# Altium footprint library SMD SO.PcbLib: 7 footprints
Each footprint in its own frame and in the unit in brackets; x right, y up, seen from the top. Pads: shape width x height; smd on the part's side, far side on the other; paste and mask are expansions set on the pad; w line width, h text height; cw(c..) or ccw(c..) is an arc to the next point about the centre after c.
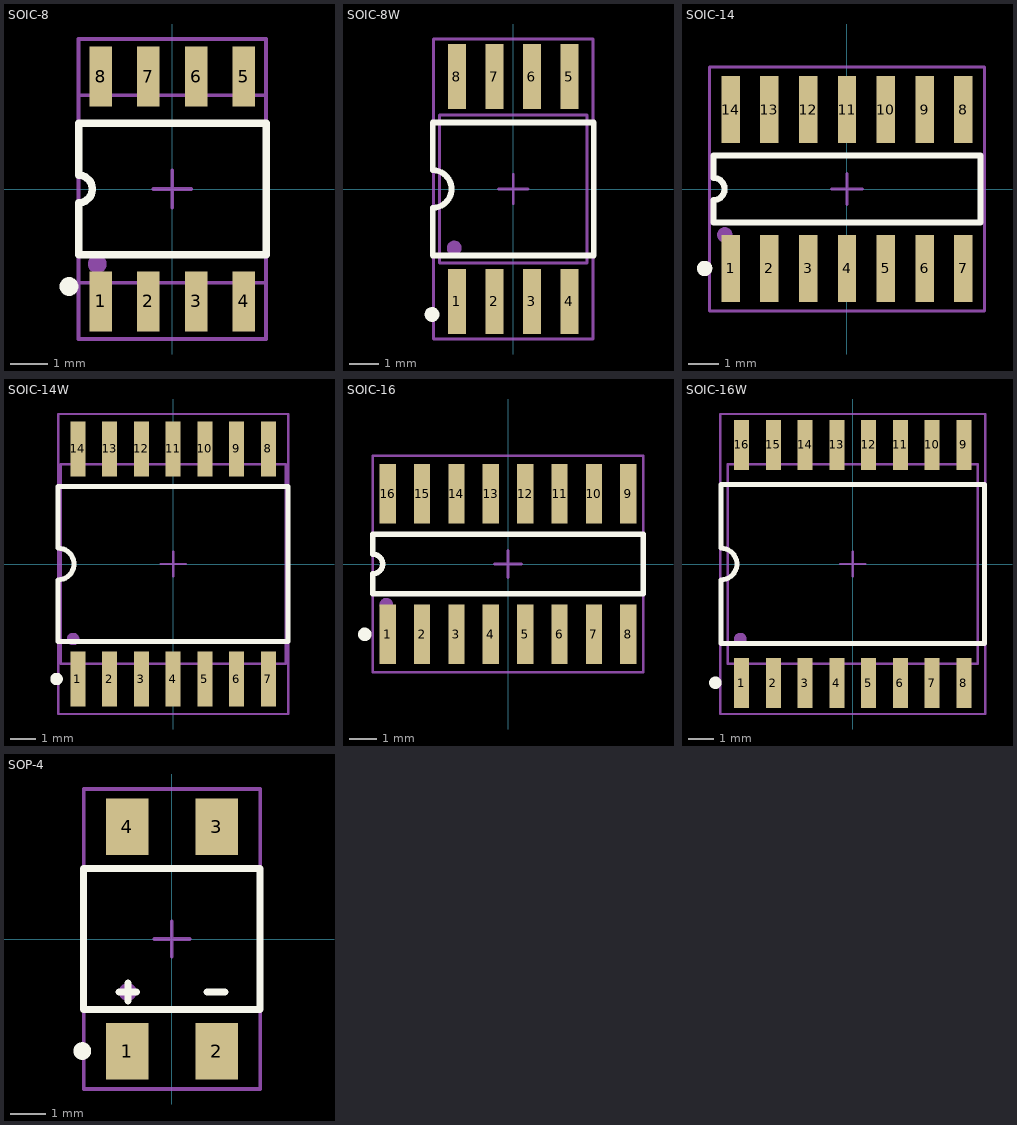
[diagram p0: the footprints below, top view; thin cyan lines are the x and y axes]

## SOIC-8 [mm] "4320.8-À Small Outline; 8 Leads; Body Width 3.9 mm; Pitch 1.27 mm"
height 1.75
pads (8):
  rect 0.6x1.6 smd: 1(-1.905,-3) 2(-0.635,-3) 3(0.635,-3) 4(1.905,-3) 5(1.905,3) 6(0.635,3) 7(-0.635,3) 8(-1.905,3)
Top Overlay:
  circle w0.25: c-2.755,-2.6 r0.125
  lines w0.2: -2.5,-1.75 2.5,-1.75 2.5,1.75 -2.5,1.75 -2.5,0.367 cw(c-2.5,0) -2.5,-0.367 -2.5,-1.75
Mechanical 7:
  lines w0.05: -2.5,-4 2.5,-4 2.5,4 -2.5,4 -2.5,-4
  text ".Designator" at -1.5,-0.5 h1.5
Mechanical 13:
  circle w0.25: c-2,-2 r0.125
  lines w0.1: -2.5,-2.5 -2.5,2.5 2.5,2.5 2.5,-2.5 -2.5,-2.5
Mechanical 15:
  lines w0.1: -0.5,0 0.5,0 ; 0,-0.5 0,0.5 ; -2.5,-4 -2.5,4 2.5,4 2.5,-4 -2.5,-4
3D body "User Library-SOIC-8.STEP": height 1.75, standoff 0, extent -2.5,-3.006 2.5,3.006

## SOIC-8W [mm] "Small Outline; 8 Leads; Body Width 7.5 mm; Pitch 1.27 mm"
height 2.65
pads (8):
  rect 0.6x2.2 smd: 1(-1.905,-3.81) 2(-0.635,-3.81) 3(0.635,-3.81) 4(1.905,-3.81) 5(1.905,3.81) 6(0.635,3.81) 7(-0.635,3.81) 8(-1.905,3.81)
Top Overlay:
  circle w0.25: c-2.75,-4.25 r0.125
  lines w0.2: -2.725,-2.25 -2.725,-0.635 ccw(c-2.725,0) -2.725,0.635 -2.725,2.25 2.725,2.25 2.725,-2.25 -2.725,-2.25
Mechanical 7:
  lines w0.05: -2.7,-5.08 2.7,-5.08 2.7,5.08 -2.7,5.08 -2.7,-5.08
  text ".Designator" at -1.5,-0.5 h1.5
Mechanical 13:
  circle w0.25: c-2,-2 r0.125
  lines w0.1: -2.5,-2.5 -2.5,2.5 2.5,2.5 2.5,-2.5 -2.5,-2.5
Mechanical 15:
  lines w0.1: -0.5,0 0.5,0 ; 0,-0.5 0,0.5 ; -2.7,-5.08 -2.7,5.08 2.7,5.08 2.7,-5.08 -2.7,-5.08
3D body "User Library-SOIC8_(ATTINY12) (1).step": height 2.3, standoff -0.02, extent -2.69,-4.196 2.69,4.196

## SOIC-14 [mm] "Small Outline; 14 Leads; Body Width 3.9 mm; Pitch 1.27 mm"
height 1.75
pads (14):
  rect 0.6x2.2 smd: 1(-3.81,-2.6) 2(-2.54,-2.6) 3(-1.27,-2.6) 4(0,-2.6) 5(1.27,-2.6) 6(2.54,-2.6) 7(3.81,-2.6) 8(3.81,2.6) 9(2.54,2.6) 10(1.27,2.6) 11(0,2.6) 12(-1.27,2.6) 13(-2.54,2.6) 14(-3.81,2.6)
Top Overlay:
  circle w0.25: c-4.66,-2.6 r0.125
  lines w0.2: -4.375,-1.1 4.375,-1.1 4.375,1.1 -4.375,1.1 -4.375,0.367 cw(c-4.375,0) -4.375,-0.367 -4.375,-1.1
Mechanical 7:
  lines w0.05: -4.5,-4 -4.5,4 4.5,4 4.5,-4 -4.5,-4
  text ".Designator" at -1.5,-0.5 h1.5
Mechanical 13:
  circle w0.25: c-4,-1.5 r0.125
Mechanical 15:
  lines w0.1: -0.5,0 0.5,0 ; 0,-0.5 0,0.5 ; -4.5,-4 4.5,-4 4.5,4 -4.5,4 -4.5,-4
3D body "SOIC14N.step": height 1.7, standoff 0, extent -4.318,-3.023 4.318,3.175

## SOIC-14W [mm] "Small Outline; 14 Leads; Body Width 7.5 mm; Pitch 1.27 mm"
height 2.65
pads (14):
  rect 0.6x2.2 smd: 1(-3.81,-4.6) 2(-2.54,-4.6) 3(-1.27,-4.6) 4(0,-4.6) 5(1.27,-4.6) 6(2.54,-4.6) 7(3.81,-4.6) 8(3.81,4.6) 9(2.54,4.6) 10(1.27,4.6) 11(0,4.6) 12(-1.27,4.6) 13(-2.54,4.6) 14(-3.81,4.6)
Top Overlay:
  circle w0.25: c-4.66,-4.6 r0.125
  lines w0.2: -4.6,-3.1 4.6,-3.1 4.6,3.1 -4.6,3.1 -4.6,0.635 cw(c-4.6,0) -4.6,-0.635 -4.6,-3.1
Mechanical 7:
  lines w0.05: -4.6,-6 4.6,-6 4.6,6 -4.6,6 -4.6,-6
  text ".Designator" at -1.5,-0.5 h1.5
Mechanical 13:
  circle w0.25: c-4,-3 r0.125
  lines w0.1: -4.5,-4 4.5,-4 4.5,4 -4.5,4 -4.5,-4
Mechanical 15:
  lines w0.1: -0.5,0 0.5,0 ; 0,-0.5 0,0.5 ; -4.6,-6 -4.6,6 4.6,6 4.6,-6 -4.6,-6
3D body "SOIC14W.step": height 1.7, standoff 0, extent -4.318,-5.334 4.318,5.309

## SOIC-16 [mm] "Small Outline; 16 Leads; Body Width 3.9 mm; Pitch 1.27 mm"
height 1.75
pads (16):
  rect 0.6x2.2 smd: 1(-4.445,-2.6) 2(-3.175,-2.6) 3(-1.905,-2.6) 4(-0.635,-2.6) 5(0.635,-2.6) 6(1.905,-2.6) 7(3.175,-2.6) 8(4.445,-2.6) 9(4.445,2.6) 10(3.175,2.6) 11(1.905,2.6) 12(0.635,2.6) 13(-0.635,2.6) 14(-1.905,2.6) 15(-3.175,2.6) 16(-4.445,2.6)
Top Overlay:
  circle w0.25: c-5.295,-2.6 r0.125
  lines w0.2: -5,-1.1 5,-1.1 5,1.1 -5,1.1 -5,0.367 cw(c-5,0) -5,-0.367 -5,-1.1
Mechanical 7:
  lines w0.05: -5,-4 5,-4 5,4 -5,4 -5,-4
  text ".Designator" at -1.5,-0.5 h1.5
Mechanical 13:
  circle w0.25: c-4.5,-1.5 r0.125
Mechanical 15:
  lines w0.1: -0.5,0 0.5,0 ; 0,-0.5 0,0.5 ; -5,-4 -5,4 5,4 5,-4 -5,-4
3D body "User Library-SOIC-16-150.STEP": height 1.64, standoff -0.11, extent -4.953,-3.048 5.047,3.152

## SOIC-16W [mm] "Small Outline; 16 Leads; Body Width 7.5 mm; Pitch 1.27 mm"
height 2.65
pads (16):
  rect 0.6x2 smd: 1(-4.445,-4.763) 2(-3.175,-4.763) 3(-1.905,-4.763) 4(-0.635,-4.763) 5(0.635,-4.763) 6(1.905,-4.763) 7(3.175,-4.763) 8(4.445,-4.763) 9(4.445,4.763) 10(3.175,4.763) 11(1.905,4.763) 12(0.635,4.763) 13(-0.635,4.763) 14(-1.905,4.763) 15(-3.175,4.763) 16(-4.445,4.763)
Top Overlay:
  circle w0.25: c-5.5,-4.75 r0.125
  lines w0.2: -5.275,-3.175 -5.275,-0.635 ccw(c-5.275,0) -5.275,0.635 -5.275,3.175 5.275,3.175 5.275,-3.175 -5.275,-3.175
Mechanical 7:
  lines w0.05: -5.3,-6 5.3,-6 5.3,6 -5.3,6 -5.3,-6
  text ".Designator" at -1.5,-0.5 h1.5
Mechanical 13:
  circle w0.25: c-4.5,-3 r0.125
  lines w0.1: -5,-4 -5,4 5,4 5,-4 -5,-4
Mechanical 15:
  lines w0.1: -0.5,0 0.5,0 ; 0,-0.5 0,0.5 ; -5.3,-6 5.3,-6 5.3,6 -5.3,6 -5.3,-6
3D body "User Library-SOIC-16-300.STEP": height 2.57, standoff -0.03, extent -5.207,-5.334 5.293,5.266

## SOP-4 [mm]
height 2.7
pads (4):
  rect 1.2x1.6 smd: 1(-1.27,-3.175) 2(1.27,-3.175) 3(1.27,3.175) 4(-1.27,3.175)
Top Overlay:
  circle w0.25: c-2.54,-3.175 r0.125
  lines w0.2: -2.5,-2 -2.5,2 ; -2.5,-2 2.5,-2 2.5,2 -2.5,2 ; -1.5,-1.5 -1,-1.5 ; -1.25,-1.75 -1.25,-1.25 ; 1,-1.5 1.5,-1.5
Mechanical 7:
  lines w0.05: -2.5,-4.25 -2.5,4.25 2.5,4.25 2.5,-4.25 -2.5,-4.25
  text ".Designator" at -1.5,-0.5 h1.5
Mechanical 13:
  circle w0.25: c-1.25,-1.5 r0.125
  lines w0.1: -2.5,-2 2.5,-2 2.5,2 -2.5,2 -2.5,-2
Mechanical 15:
  lines w0.1: -0.5,0 0.5,0 ; 0,-0.5 0,0.5 ; -2.5,-4.25 2.5,-4.25 2.5,4.25 -2.5,4.25 -2.5,-4.25
3D body "User Library-SOP254P665X290.step": height 2.9, standoff 0, extent -2.475,-3.343 2.475,3.343